# Altium schematic symbol library 8TQ100.SchLib: 1 symbol
Pins are listed as number, name and electrical type; pins without a type are passive.

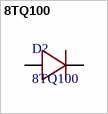
[diagram p0: symbol 8TQ100]

## 8TQ100
designator D?
footprint TO-220AC
footprint TO-220AB
pins: 1, 3